# Altium footprint library ds1069_2mrw6xb.PcbLib: 1 footprints
Each footprint in its own frame and in the unit in brackets; x right, y up, seen from the top. Pads: shape width x height; smd on the part's side, far side on the other; paste and mask are expansions set on the pad; w line width, h text height; cw(c..) or ccw(c..) is an arc to the next point about the centre after c.
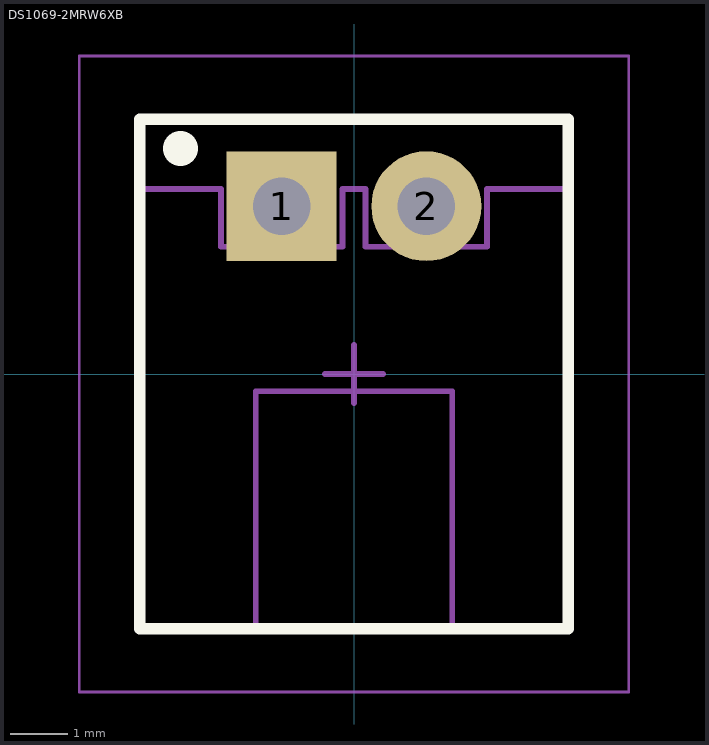
[diagram p0: the footprint, top view; thin cyan lines are the x and y axes]

## DS1069-2MRW6XB [mm] "CWF 2 Pins Plug Header, Pitch 2,5mm, R/A Type, Type B"
height 5.75
pads (2):
  rect 1.9x1.9 hole 1: 1(-1.25,2.9)
  round 1.9 hole 1: 2(1.25,2.9)
Top Overlay:
  circle w0.6: c-3,3.9 r0.001
  lines w0.2: -3.7,-4.4 3.7,-4.4 3.7,4.4 -3.7,4.4 -3.7,-4.4
Top Comment:
  text ".Comment" at 1,6 h1.2
Top Designator:
  text ".Designator" at -0.5,6 h1.2
Top Component Outline:
  lines w0.1: -1.7,-4.4 -1.7,-0.3 1.7,-0.3 1.7,-4.4 ; -3.7,-4.4 3.7,-4.4 3.7,3.2 2.3,3.2 2.3,2.2 0.2,2.2 0.2,3.2 -0.2,3.2 -0.2,2.2 -2.3,2.2 -2.3,3.2 -3.7,3.2 -3.7,-4.4
Top Courtyard:
  lines w0.05: -4.75,-5.5 4.75,-5.5 4.75,5.5 -4.75,5.5 -4.75,-5.5
  lines w0.1: -0.5,0 0.5,0 ; 0,-0.5 0,0.5
3D body "DS1069-2 MR.STEP": height 5.75, standoff -3.4, extent -3.7,-4.42 3.7,3.22